# Altium integrated library CL10A475KA8NQNC.IntLib: 1 symbol
Pins are listed as number, name and electrical type; pins without a type are passive.

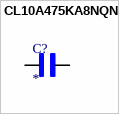
[diagram p0: symbol CL10A475KA8NQNC]

## CL10A475KA8NQNC
designator C?
4.7 ÂµF Â±10% 25V Ceramic Capacitor X5R 0603 (1608 Metric); MF: Samsung; MP: CL10A475KA8NQNC; SnapEDA_Link: https://www.snapeda.com/parts/CL10A475KA8NQNC/Samsung/view-part/?ref=snap; Package: SMD-2 Samsung; Value: *; Check_prices: https://www.snapeda.com/parts/CL10A475KA8NQNC/Samsung/view-part/?ref=eda
footprint CAPC1608X95N
pins: 1, 2